# Altium footprint library MMT_Diodes_LEDs.PcbLib: 18 footprints (part 1 of 2)
Each footprint in its own frame and in the unit in brackets; x right, y up, seen from the top. Pads: shape width x height; smd on the part's side, far side on the other; paste and mask are expansions set on the pad; w line width, h text height; cw(c..) or ccw(c..) is an arc to the next point about the centre after c.
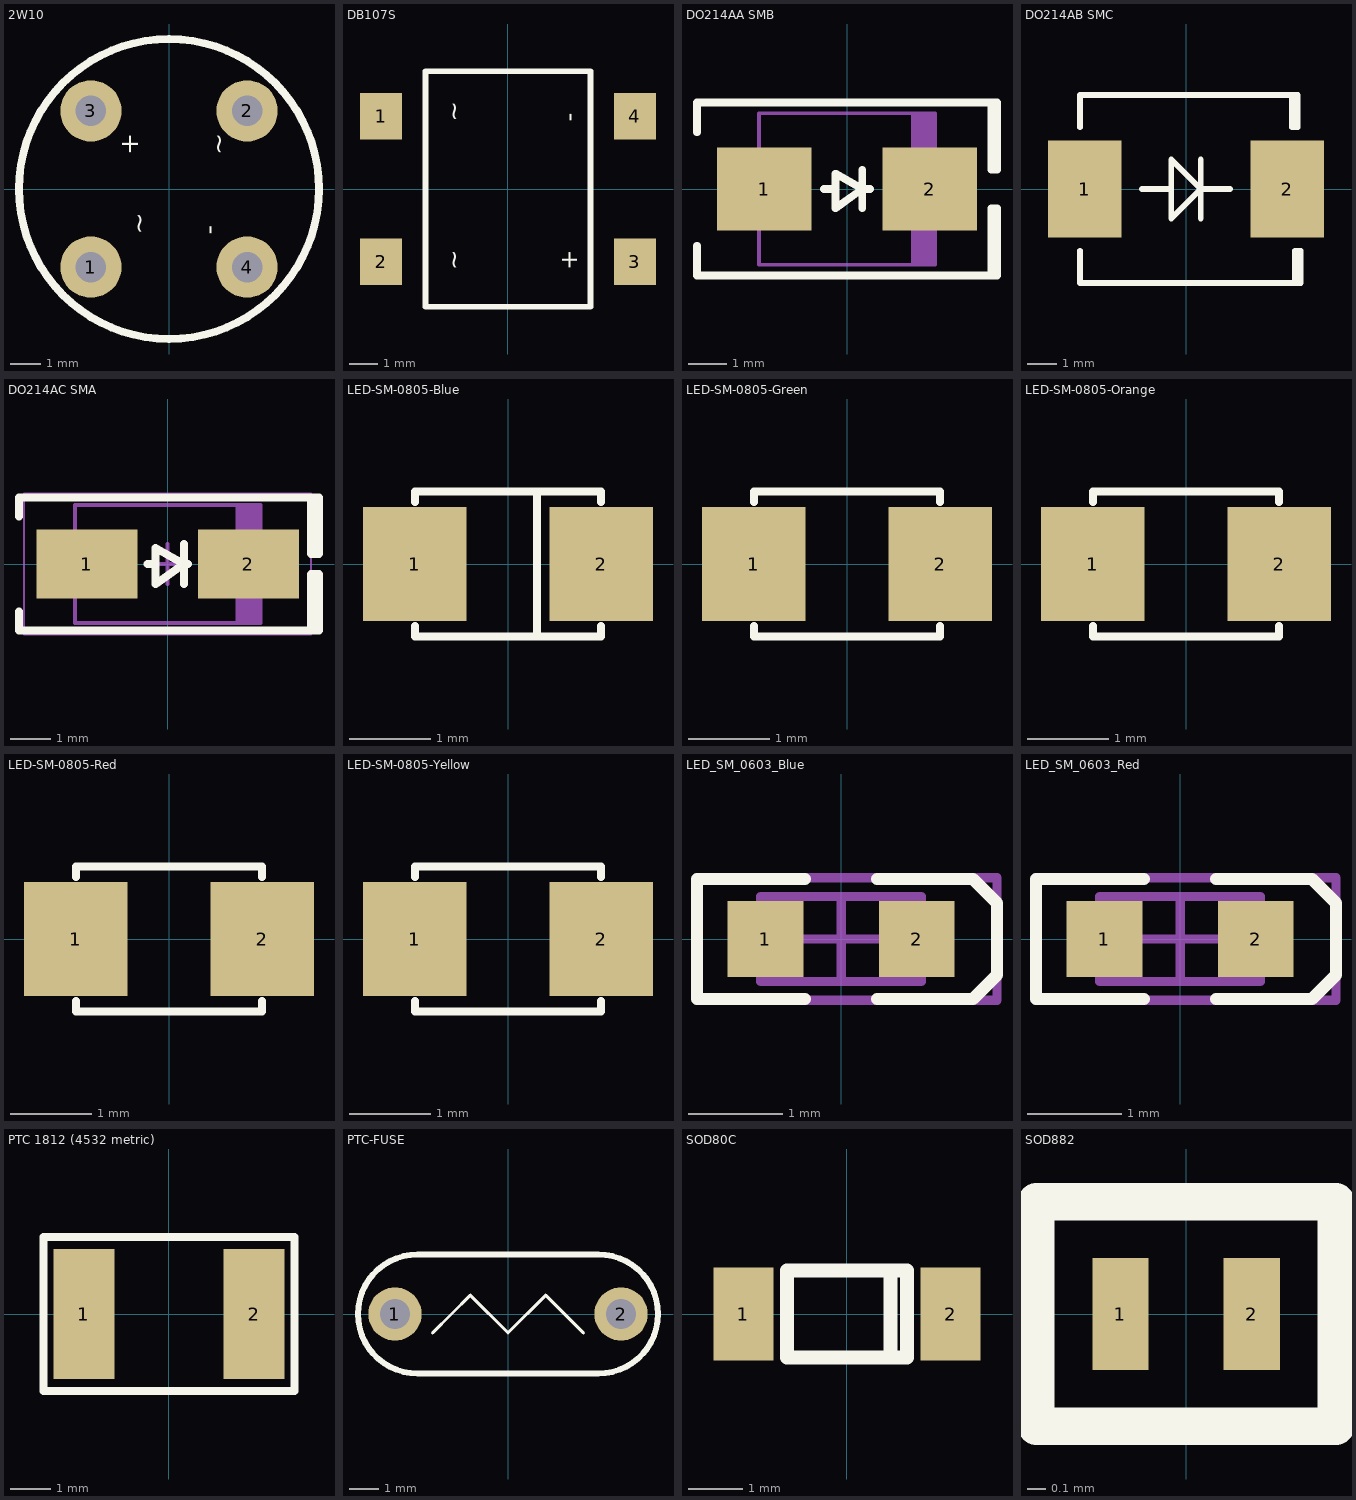
[diagram p0: the footprints below, top view; thin cyan lines are the x and y axes]

## 2W10 [mm]
height 5.1
pads (4):
  round 2 hole 1: 1(-2.55,-2.55) 2(2.55,2.55) 3(-2.55,2.55) 4(2.55,-2.55)
Top Overlay:
  circle w0.254: c0,0 r4.9
  text "-" at 1.6,-1.5 h0.64
  text "+" at -1,1.1 h0.64
  text "~" at -0.7,-1.5 h0.64
  text "~" at 1.9,1.1 h0.64
3D body "User Library-Silicon Bridge Rectifiers 2W10.step": height 7.3, standoff -10.7, extent -4.55,-4.45 4.45,4.55

## DB107S [mm]
height 3.4
pads (4):
  rect 1.5x1.65 smd: 1(-4.53,2.6) 2(-4.53,-2.6) 3(4.53,-2.6) 4(4.53,2.6)
Top Overlay:
  lines w0.2: -2.945,-4.2 2.945,-4.2 2.945,4.2 1.3,4.2 -2.945,4.2 -2.945,-4.2
  text "-" at 2.47,2.4 h0.64
  text "+" at 2.47,-2.9 h0.64
  text "~" at -1.63,-2.9 h0.64
  text "~" at -1.63,2.4 h0.64
3D body "User Library-DB107S  DB-S.step": height 2.66, standoff 0, extent -5.2,-4.16 5.2,4.16

## DO214AA SMB [mm] "Molded Diode, 2-Leads, Body 4.31x3.62mm, IPC Medium Density"
height 2.44
pads (2):
  rect 2.45x2.15 smd: 1(-2.15,0) 2(2.15,0)
Top Overlay:
  lines w0.2: -3.9,-1.475 -3.9,-2.25 3.9,-2.25 3.9,-0.5 3.75,-0.5 3.75,-2.25 ; -3.9,1.475 -3.9,2.25 3.9,2.25 3.9,0.5 3.75,0.5 3.75,2.25 ; -0.6,0 -0.3,0 ; 0.4,-0.5 0.4,0.5 ; 0.6,0 0.4,0 ; 0.4,0 -0.3,-0.5 -0.3,0.4 0.4,0
Mechanical 13:
  rectangle: 1.67,-1.97 2.285,1.97
  lines w0.1: -2.285,-1.97 -2.285,1.97 2.285,1.97 2.285,-1.97 -2.285,-1.97
3D body "SMB.STEP": height 2.4, standoff 0, extent -2.6,-1.799 2.6,1.8

## DO214AB SMC [mm] "Molded Diode, 2-Leads, Body 6.85x5.90mm, IPC Medium Density"
height 2.62
pads (2):
  rect 2.5x3.3 smd: 1(-3.45,0) 2(3.45,0)
Top Overlay:
  lines w0.2: -3.6,-2.1 -3.6,-3.2 3.9,-3.2 ; -3.6,2.1 -3.6,3.2 3.8,3.2 ; -1.5,0 -0.5,0 ; 0.5,-1 0.5,1 ; 1.5,0 0.5,0 ; -0.5,0 -0.5,-1 0.5,0 ; -0.5,0 -0.5,1 0.5,0 ; 3.8,3.2 3.6,3.2 3.6,2.1 3.8,2.1 3.8,3.2 ; 3.9,-3.2 3.7,-3.2 3.7,-2.1 3.9,-2.1 3.9,-3.2
3D body "SMC.STEP": height 2.6, standoff 0, extent -3.97,-2.952 3.97,2.952

## DO214AC SMA [mm] "Molded Diode, 2-Leads, Body 4.30x2.60mm, IPC Medium Density"
height 2.4
pads (2):
  rect 2.5x1.7 smd: 1(-2,0) 2(2,0)
Top Overlay:
  lines w0.2: -3.683,-1.175 -3.683,-1.651 3.75,-1.651 3.75,-0.254 3.556,-0.254 3.556,-1.651 ; -3.683,1.175 -3.683,1.651 3.75,1.651 3.75,0.254 3.556,0.254 3.556,1.651 ; -0.5,0 -0.3,0 ; 0.4,-0.5 0.4,0.5 ; 0.5,0 0.4,0 ; 0.4,0 -0.3,0.4 -0.3,-0.5 0.4,0
Mechanical 13:
  rectangle: 1.681,-1.46 2.3,1.46
  lines w0.1: -2.3,-1.46 -2.3,1.46 2.3,1.46 2.3,-1.46 -2.3,-1.46
Mechanical 15:
  lines w0.05: -3.556,-1.75 -3.556,1.75 3.556,1.75 3.556,-1.75 -3.556,-1.75
  lines w0.1: -0.5,0 0.5,0 ; 0,-0.5 0,0.5
3D body "SMA.STEP": height 2.4, standoff 0, extent -2.6,-1.375 2.6,1.375

## LED-SM-0805-Blue [mil]
pads (2):
  rect 50x55 smd: 1(-45,0) 2(45,0)
Top Overlay:
  lines w4: -45,-30 -45,-35 45,-35 45,-30 ; -45,30 -45,35 45,35 45,30 ; 14.06,-35 14.06,35
3D body "User Library-led_0805-blue.step": height 43.31, standoff 0, extent -39.78,-24.61 39.75,24.6

## LED-SM-0805-Green [mil]
pads (2):
  rect 50x55 smd: 1(-45,0) 2(45,0)
Top Overlay:
  lines w4: -45,-30 -45,-35 45,-35 45,-30 ; -45,30 -45,35 45,35 45,30
3D body "User Library-led_0805-Green.step": height 43.31, standoff 0, extent -39.76,-24.6 39.77,24.61

## LED-SM-0805-Orange [mil]
pads (2):
  rect 50x55 smd: 1(-45,0) 2(45,0)
Top Overlay:
  lines w4: -45,-30 -45,-35 45,-35 45,-30 ; -45,30 -45,35 45,35 45,30
3D body "User Library-led_0805-orange.step": height 43.31, standoff 0, extent -39.76,-24.59 39.77,24.62

## LED-SM-0805-Red [mil]
pads (2):
  rect 50x55 smd: 1(-45,0) 2(45,0)
Top Overlay:
  lines w4: -45,-30 -45,-35 45,-35 45,-30 ; -45,30 -45,35 45,35 45,30
3D body "User Library-led_0805-red.step": height 43.31, standoff 0, extent -39.75,-24.6 39.77,24.62

## LED-SM-0805-Yellow [mil]
pads (2):
  rect 50x55 smd: 1(-45,0) 2(45,0)
Top Overlay:
  lines w4: -45,-30 -45,-35 45,-35 45,-30 ; -45,30 -45,35 45,35 45,30
3D body "User Library-led_0805-yellow.step": height 43.31, standoff 0, extent -39.75,-24.6 39.77,24.62

## LED_SM_0603_Blue [mm] "Chip LED, 2-Leads, Body 1.6x0.8mm, IPC Medium Density"
height 0.68
pads (2):
  rect 0.8x0.8 smd: 1(-0.8,0) 2(0.8,0)
Top Overlay:
  lines w0.127: -0.381,-0.635 -1.524,-0.635 -1.524,0.635 -0.381,0.635 ; 0.381,-0.635 1.397,-0.635 1.651,-0.381 1.651,0.381 1.397,0.635 0.381,0.635
Mechanical 13:
  lines w0.1: -0.85,-0.45 0.85,-0.45 0.85,0.45 -0.85,0.45 -0.85,-0.45
Mechanical 15:
  lines w0.1: -0.45,0 0.45,0 ; 0,-0.45 0,0.45 ; -1.525,-0.65 1.651,-0.65 1.651,0.65 -1.525,0.65 -1.525,-0.65
3D body "WL-SMCW_0603_LED.stp": height 0.7, standoff 0, extent -0.8,-0.4 0.8,0.4

## LED_SM_0603_Red [mm] "Chip LED, 2-Leads, Body 1.6x0.8mm, IPC Medium Density"
height 0.68
pads (2):
  rect 0.8x0.8 smd: 1(-0.8,0) 2(0.8,0)
Top Overlay:
  lines w0.127: -0.381,-0.635 -1.524,-0.635 -1.524,0.635 -0.381,0.635 ; 0.381,-0.635 1.397,-0.635 1.651,-0.381 1.651,0.381 1.397,0.635 0.381,0.635
Mechanical 13:
  lines w0.1: -0.85,-0.45 0.85,-0.45 0.85,0.45 -0.85,0.45 -0.85,-0.45
Mechanical 15:
  lines w0.1: -0.45,0 0.45,0 ; 0,-0.45 0,0.45 ; -1.525,-0.65 1.651,-0.65 1.651,0.65 -1.525,0.65 -1.525,-0.65
3D body "WL-SMCW_0603_LED.stp": height 0.7, standoff 0, extent -0.8,-0.4 0.8,0.4

## PTC 1812 (4532 metric) [mm]
pads (2):
  rect 1.5x3.2 smd: 1(-2.1,0) 2(2.1,0)
Top Overlay:
  lines w0.2: -3.1,-1.9 3.1,-1.9 3.1,1.9 -3.1,1.9 -3.1,-0.65 -3.1,-1.9
3D body "User Library-0ZCG-0_90mm.step": height 0.25, standoff -0.25, extent -2.24,-1.6 2.26,1.6

## PTC-FUSE [mm] "Capacitor, Ceramic, ThrNTC 2A"
height 5
pads (2):
  round 1.8 hole 1: 1(-3.81,0) 2(3.81,0)
Top Overlay:
  lines w0.1: -2.54,-0.635 -1.905,0 -1.27,0.635 0,-0.635 1.27,0.635 ; 1.27,0.635 2.54,-0.635 1.27,0.635
  lines w0.2: -3.048,-2.008 cw(c-3.048,0) -3.048,2.008 3.048,2.008 cw(c3.048,0) 3.048,-2.008 -3.048,-2.008
3D body "68928.stp": height 17, standoff -14.1, extent -7.025,-1.473 6.975,1.527

## SOD80C [mm]
pads (2):
  rect 1.1x1.7 smd: 1(-1.9,0) 2(1.9,0)
Top Overlay:
  lines w0.254: 0.8,-0.8 0.8,0.8 ; -1.1,-0.8 -1.1,0.8 1.1,0.8 1.1,-0.8 -1.1,-0.8
3D body "User Library-MiniMelf-2.step": height 1.6, standoff 0, extent -1.88,-0.8 1.82,0.8

## SOD882 [mm]
pads (2):
  rect 0.3x0.6 smd: 1(-0.35,0) 2(0.35,0)
Top Overlay:
  lines w0.2: -0.8,-0.6 -0.8,0.6 0.8,0.6 0.8,-0.6 -0.8,-0.6
3D body "User Library-SOD-882D.step": height 0.42, standoff -0.05, extent -0.53,-0.325 0.52,0.325